# Altium footprint library 1042P.PcbLib: 2 footprints
Each footprint in its own frame and in the unit in brackets; x right, y up, seen from the top. Pads: shape width x height; smd on the part's side, far side on the other; paste and mask are expansions set on the pad; w line width, h text height; cw(c..) or ccw(c..) is an arc to the next point about the centre after c.
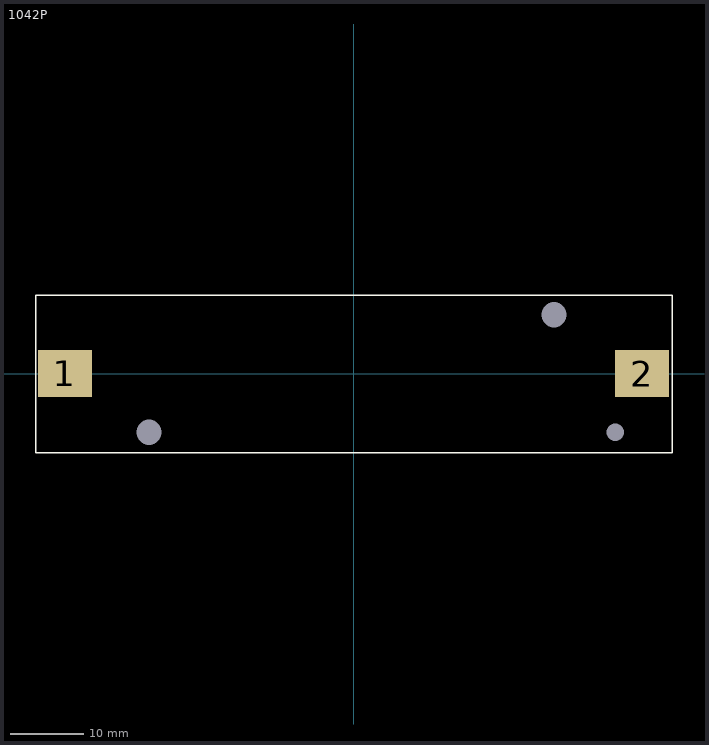
[diagram p0: the footprints below, top view; thin cyan lines are the x and y axes]

## 1042P [mm]
pads (5):
  rect 7.34x6.35 smd: 1(-39.33,0) 2(39.33,0)
  round 0 hole 3.45: 6(-27.87,-8) 6(27.33,8)
  round 0 hole 2.39: 6(35.66,-8)
Top Overlay:
  lines w0.254: -43.307,-10.795 -43.307,10.668 43.434,10.668 43.434,-10.795 -43.307,-10.795
3D body "keystone-PN1042.STEP": height 14.86, standoff -3.43, extent -43.002,-10.414 43.002,10.236

## PCBComponent_1 [mm]